# Altium schematic symbol library BTL_SCHLIB.SchLib: 20 symbols
Pins are listed as number, name and electrical type; pins without a type are passive.

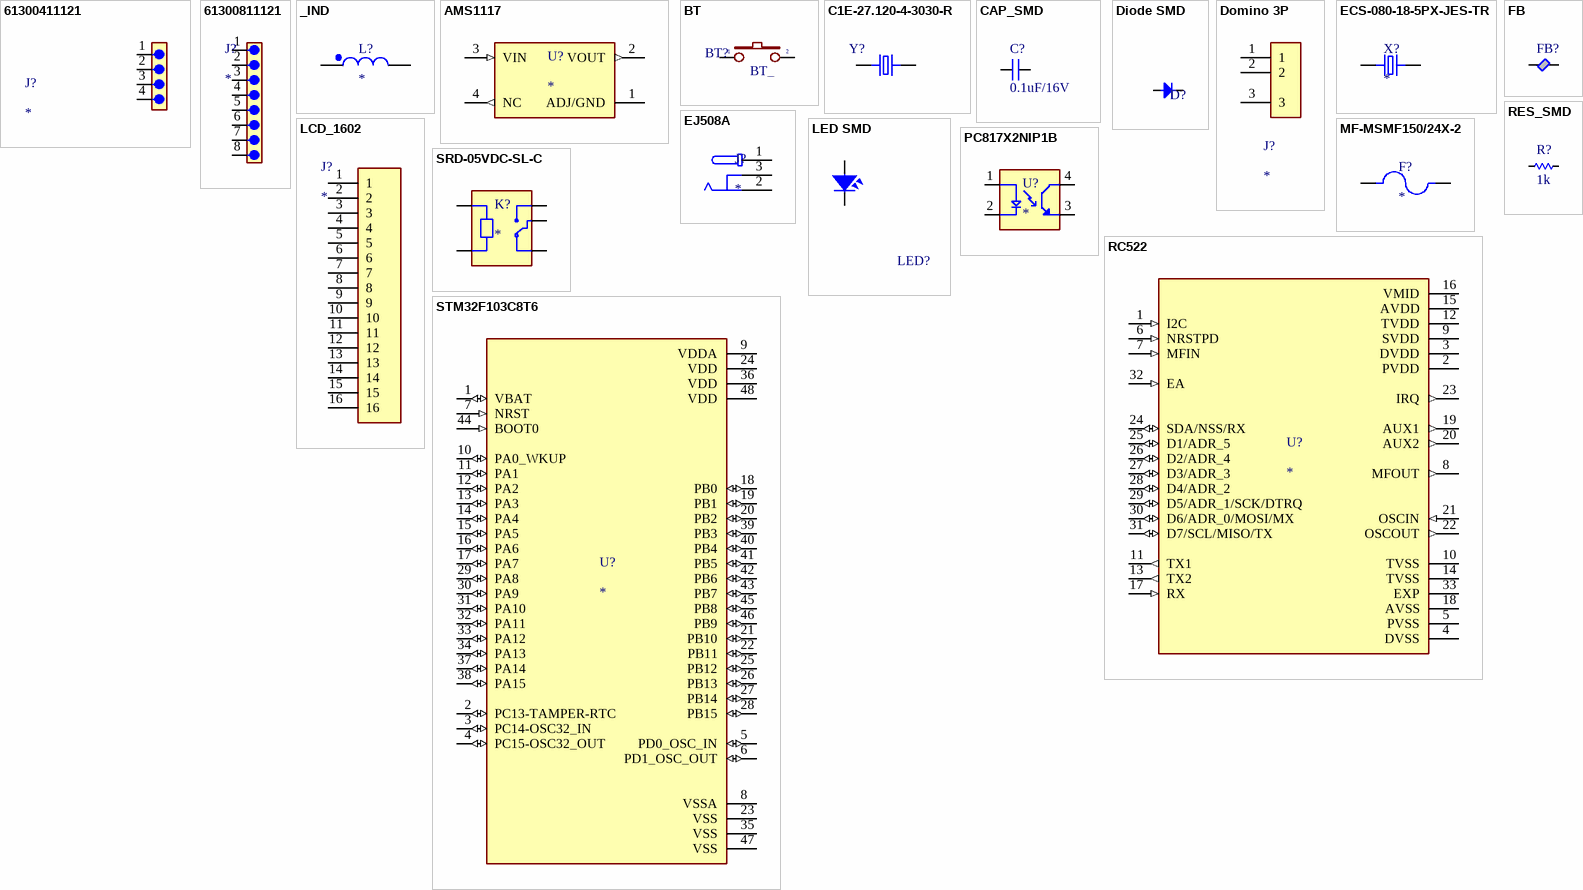
[diagram p0: symbols 61300411121 to STM32F103C8T6]

## 61300411121
designator J?
CONN HEADER VERT 4POS 2.54MM; MF: WÃ¼rth Elektronik; MP: 61300411121; SnapEDA_Link: https://www.snapeda.com/parts/61300411121/W%25C3%25BCrth+Elektronik+Midcom/view-part/?ref=snap; Package: None; Value: *; Check_prices: https://www.snapeda.com/parts/61300411121/W%25C3%25BCrth+Elektronik+Midcom/view-part/?ref=eda
footprint 61300411121
pins: 1, 2, 3, 4

## 61300811121
designator J?
8 pins, 1 row, straight, gold plating; MF: Wurth Electronics; MP: 61300811121; SnapEDA_Link: https://www.snapeda.com/parts/61300811121/Wurth+Electronics/view-part/?ref=snap; Package: None; Value: *; Check_prices: https://www.snapeda.com/parts/61300811121/Wurth+Electronics/view-part/?ref=eda
footprint 61300811121
pins: 1, 2, 3, 4, 5, 6, 7, 8

## _IND
designator L?
footprint IND_C_2012X65 (Chip Inductor, 2-Leads, Body 2.00x1.25mm, IPC High Density)
pins: 1, 2

## AMS1117
designator U?
1A LOW DROPOUT VOLTAGE REGULATOR SOT-223; MF: Advanced Monolithic Systems; MP: AMS1117; SnapEDA_Link: https://www.snapeda.com/parts/AMS1117/Advanced+Monolithic+Systems/view-part/?ref=snap; Package: SOT-223 Seeed Technology; Value: *; Check_prices: https://www.snapeda.com/parts/AMS1117/Advanced+Monolithic+Systems/view-part/?ref=eda
footprint SOT229P700X180-4N
pins: 1 ADJ/GND (power), 2 VOUT (out), 3 VIN (in), 4 NC (out)

## BT
designator BT?, comment BT_
Switch button 2 pin; Value: SW chip 2 pin
footprint SW2-SMD
pins: 1, 2

## C1E-27.120-4-3030-R
designator Y?
CRYSTAL 27.1200MHZ 8PF SMD; MP: C1E-27.120-4-3030-R; Package: None; Price: None; Value: *; Availability: Unavailable
footprint XTAL_C1E-27.120-4-3030-R
pins: 1, 3

## CAP_SMD
designator C?, comment 0.1uF/16V
CAP_Chip; Value: 33pF
footprint CAP_C_1608X80 (Chip Capacitor, 2-Leads, Body 1.60x0.80mm, IPC Medium Density)
pins: 1, 2

## Diode SMD
designator D?
Default Diode; Code - JEDEC: DO-214-AB; Value: 1N5007; Published: 8-Jun-2000; Revision: July-2002: Re-released for DXP Platform.; Publisher: Altium Limited
footprint DO-214AC_SMA (Molded Diode, 2-Leads, Body 5.20x2.61mm, IPC Medium Density)
pins: 1 K, 2 A

## Domino 3P
designator J?
footprint Terminal Domino 3P
pins: 1, 2, 3

## ECS-080-18-5PX-JES-TR
designator X?
8 MHz Â±20ppm Crystal 18pF 60 Ohms HC-49/US; MF: ECS Inc.; MP: ECS-080-18-5PX-JES-TR; SnapEDA_Link: https://www.snapeda.com/parts/ECS-080-18-5PX-JES-TR/ECS/view-part/?ref=snap; Package: CSM-7X-3L-5G3X-2 ECS; Value: *; Check_prices: https://www.snapeda.com/parts/ECS-080-18-5PX-JES-TR/ECS/view-part/?ref=eda
footprint XTAL_ECS-080-18-5PX-JES-TR
footprint XTAL 8MHz
pins: 1, 2

## EJ508A
designator J?
Power Barrel Connector Jack 2.10mm ID _0.083_, 5.50mm OD _0.217_ Through Hole, Right Angle; MF: MPD; MP: EJ508A; Package: Non-Standard MPD; Value: *; SnapEDA_Link: https://www.snapeda.com/parts/EJ508A/MPD%20%28Memory%20Protection%20Devices%29/view-part/474399/?ref=snap; Price: None; Availability: Unavailable
footprint MPD_EJ508A
pins: 1, 2, 3

## FB
designator FB?, comment L+R  (value not drawn)
FERRITE BEAD
footprint IND_C_2012X65 (Chip Inductor, 2-Leads, Body 2.00x1.25mm, IPC High Density)
pins: 1, 2

## LCD_1602
designator J?
footprint LCD_1602
pins: 1, 2, 3, 4, 5, 6, 7, 8, 9, 10, 11, 12, 13, 14, 15, 16

## LED SMD
designator LED?, comment LED  (value not drawn)
LED_Chip; Value: LED 3 - 5 ly 2 Colour
footprint LED-0603-RED
pins: 1, 2

## MF-MSMF150/24X-2
designator F?
Polymeric PTC Resettable Fuse 24V 1.5 A Ih Surface Mount 1812 (4532 Metric), Concave; MP: MF-MSMF150/24X-2; MF: Bourns; Check_prices: https://www.snapeda.com/parts/MF-MSMF150/24X-2/Bourns/view-part/?ref=eda; Value: *; Purchase-URL: https://pricing.snapeda.com/search/part/MF-MSMF150/24X-2/?ref=eda; SnapEDA_Link: https://www.snapeda.com/parts/MF-MSMF150/24X-2/Bourns/view-part/?ref=snap; Package: 1812 Bourns; Digi-Key_Part_Number: MF-MSMF150/24X-2TR-ND
footprint FUSER_MF-MSMF150/24X-2
pins: 1, 2

## PC817X2NIP1B
designator U?
Optocoupler DC-IN 1-CH Transistor DC-OUT 4-Pin DIP SMD T/R; MF: Sharp Microelectronics; MP: PC817X2NIP1B; SnapEDA_Link: https://www.snapeda.com/parts/PC817X2NIP1B/Sharp+Microelectronics/view-part/?ref=snap; Package: SMD-4 Sharp Microelectronics; Value: *; Check_prices: https://www.snapeda.com/parts/PC817X2NIP1B/Sharp+Microelectronics/view-part/?ref=eda
footprint SOIC254P960X420-4N
pins: 1 A, 2 C, 3 ET, 4 CT

## RC522
designator U?
IC RFID READER 13.56MHZ 32HVQFN; MF: NXP USA Inc.; MP: RC522; SnapEDA_Link: https://www.snapeda.com/parts/RC522/NXP+Semiconductors/view-part/?ref=snap; Package: VFQFN-32 NXP Semiconductors; Value: *; Check_prices: https://www.snapeda.com/parts/RC522/NXP+Semiconductors/view-part/?ref=eda
footprint QFN50P500X500X100-33N
pins: 1 I2C (in), 2 PVDD (power), 3 DVDD (power), 4 DVSS (power), 5 PVSS (power), 6 NRSTPD (in), 7 MFIN (in), 8 MFOUT (out), 9 SVDD (power), 10 TVSS (power), 11 TX1 (out), 12 TVDD (power), 13 TX2 (out), 14 TVSS (power), 15 AVDD (power), 16 VMID (power), 17 RX (in), 18 AVSS (power), 19 AUX1 (out), 20 AUX2 (out), 21 OSCIN (in), 22 OSCOUT (out), 23 IRQ (out), 24 SDA/NSS/RX (io), 25 D1/ADR_5 (io), 26 D2/ADR_4 (io), 27 D3/ADR_3 (io), 28 D4/ADR_2 (io), 29 D5/ADR_1/SCK/DTRQ (io), 30 D6/ADR_0/MOSI/MX (io), 31 D7/SCL/MISO/TX (io), 32 EA (in), 33 EXP (power)

## RES_SMD
designator R?, comment 1k
RES
footprint RES_C_1608X60 (Chip Resistor, 2-Leads, Body 1.63x0.83mm, IPC High Density)
pins: 1, 2

## SRD-05VDC-SL-C
designator K?
5V Trigger Relay Module For Arduino And Raspberry Pi 5V Trigger Relay Module For Arduino And Raspberry Pi; MF: Songle Relay; MP: SRD-05VDC-SL-C; Check_prices: https://www.snapeda.com/parts/SRD-05VDC-SL-C/Songle+Relay/view-part/?ref=eda; Value: *; Availability: Not in stock; Price: None; Package: NON STANDARD-5 Songle Relay; SnapEDA_Link: https://www.snapeda.com/parts/SRD-05VDC-SL-C/Songle+Relay/view-part/?ref=snap
footprint RELAY_SRD-05VDC-SL-C
pins: A1, A2, COM, NC, NO

## STM32F103C8T6
designator U?
ARM® Cortex®-M3 STM32F1 Microcontroller IC 32-Bit 72MHz 64KB (64K x 8) FLASH 48-LQFP (7x7); MF: STMicroelectronics; MP: STM32F103C8T6; SnapEDA_Link: https://www.snapeda.com/parts/STM32F103C8T6/STMicroelectronics/view-part/?ref=snap; Package: LQFP-48 STMicroelectronics; Value: *; Check_prices: https://www.snapeda.com/parts/STM32F103C8T6/STMicroelectronics/view-part/?ref=eda
footprint QFP50P900X900X160-48N
pins: 1 VBAT (io), 2 PC13-TAMPER-RTC (io), 3 PC14-OSC32_IN (io), 4 PC15-OSC32_OUT (io), 5 PD0_OSC_IN (io), 6 PD1_OSC_OUT (io), 7 NRST (in), 8 VSSA (power), 9 VDDA (power), 10 PA0_WKUP (io), 11 PA1 (io), 12 PA2 (io), 13 PA3 (io), 14 PA4 (io), 15 PA5 (io), 16 PA6 (io), 17 PA7 (io), 18 PB0 (io), 19 PB1 (io), 20 PB2 (io), 21 PB10 (io), 22 PB11 (io), 23 VSS (power), 24 VDD (power), 25 PB12 (io), 26 PB13 (io), 27 PB14 (io), 28 PB15 (io), 29 PA8 (io), 30 PA9 (io), 31 PA10 (io), 32 PA11 (io), 33 PA12 (io), 34 PA13 (io), 35 VSS (power), 36 VDD (power), 37 PA14 (io), 38 PA15 (io), 39 PB3 (io), 40 PB4 (io), 41 PB5 (io), 42 PB6 (io), 43 PB7 (io), 44 BOOT0 (in), 45 PB8 (io), 46 PB9 (io), 47 VSS (power), 48 VDD (power)